# Altium integrated library NSC Audio.IntLib: 691 symbols (part 11 of 18)
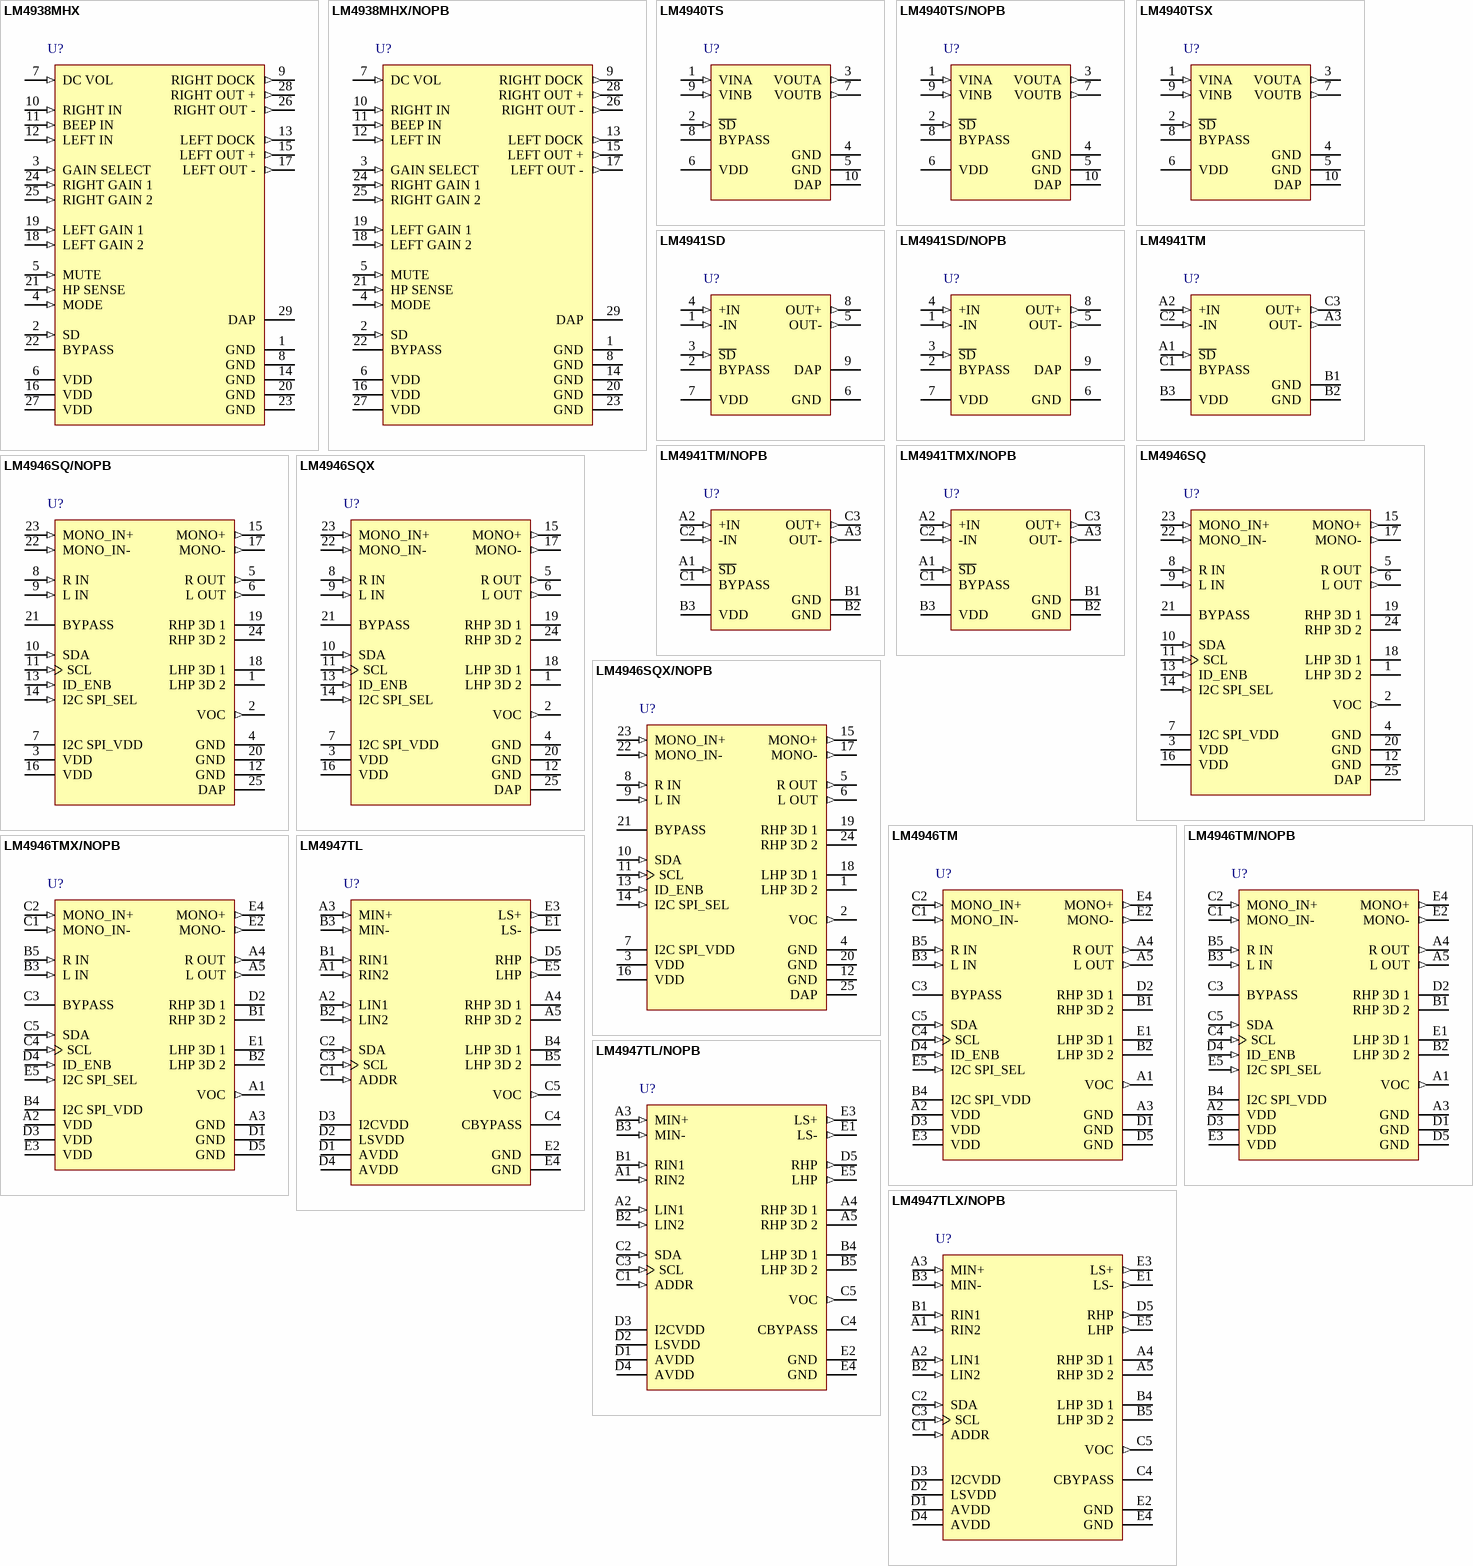
[diagram p37: symbols LM4938MHX to LM4947TLX/NOPB]

## LM4938MHX
designator U?
Stereo 2W Audio Power Amplifiers with DC Volume Control and Selectable Gain, 28-pin TSSOP-EP; PartNumber: LM4938MHX; Manufacturer: National Semiconductor; PackageTopMarking: NSUZXYTTE#*LM4938MH; PowerWise: N; CompType: Audio IC; Published: 1-Mar-2010; DatasheetVersion: Jul-2005; PackageVersion: revD, Oct-2003; PackageReference: MXA28A; Publisher: Altium Limited; PackageDescription: Molded TSSOP, Jedec, 9.7 x 4.4 x 0.9mm Body, 28 Lead, 0.65mm Pitch, Exposed Pad; RoHS: N; PinCount: 28; Code_JEDEC: MO-153-AET; ComponentLink1Description: LM4938 Datasheet; ComponentLink1URL: http://www.national.com/ds/LM/LM4938.pdf; ComponentLink2Description: LM4938 Web Page; ComponentLink2URL: http://www.national.com/pf/LM/LM4938.html; ComponentLink3Description: MXA28A Package Page; ComponentLink3URL: http://www.national.com/packaging/folders/mxa28a.html
footprint MXA28A_N (TSOP, 28-Leads, Body 9.7x4.4mm, Pitch 0.65mm, Exposed Pad, IPC Medium Density)
footprint MXA28A_L (TSOP, 28-Leads, Body 9.7x4.4mm, Pitch 0.65mm, Exposed Pad, IPC High Density)
footprint MXA28A_M (TSOP, 28-Leads, Body 9.7x4.4mm, Pitch 0.65mm, Exposed Pad, IPC Low Density)
pins: 1 GND (power), 2 SD (in), 3 GAIN SELECT (in), 4 MODE (in), 5 MUTE (in), 6 VDD (power), 7 DC VOL (in), 8 GND (power), 9 RIGHT DOCK (out), 10 RIGHT IN (in), 11 BEEP IN (in), 12 LEFT IN (in), 13 LEFT DOCK (out), 14 GND (power), 15 LEFT OUT + (out), 16 VDD (power), 17 LEFT OUT - (out), 18 LEFT GAIN 2 (in), 19 LEFT GAIN 1 (in), 20 GND (power), 21 HP SENSE (in), 22 BYPASS, 23 GND (power), 24 RIGHT GAIN 1 (in), 25 RIGHT GAIN 2 (in), 26 RIGHT OUT - (out), 27 VDD (power), 28 RIGHT OUT + (out), 29 DAP (power)

## LM4938MHX/NOPB
designator U?
Stereo 2W Audio Power Amplifiers with DC Volume Control and Selectable Gain, 28-pin TSSOP-EP, Pb-Free; PartNumber: LM4938MHX/NOPB; Manufacturer: National Semiconductor; PackageTopMarking: NSUZXYTTE#*LM4938MH; PowerWise: N; CompType: Audio IC; Published: 1-Mar-2010; DatasheetVersion: Jul-2005; PackageVersion: revD, Oct-2003; PackageReference: MXA28A; Publisher: Altium Limited; PackageDescription: Molded TSSOP, Jedec, 9.7 x 4.4 x 0.9mm Body, 28 Lead, 0.65mm Pitch, Exposed Pad; Supplier 1: Digi-Key; Supplier Part Number 1: LM4938MHX-ND; RoHS: Y; PinCount: 28; Code_JEDEC: MO-153-AET; ComponentLink1Description: LM4938 Datasheet; ComponentLink1URL: http://www.national.com/ds/LM/LM4938.pdf; ComponentLink2Description: LM4938 Web Page; ComponentLink2URL: http://www.national.com/pf/LM/LM4938.html; ComponentLink3Description: MXA28A Package Page; ComponentLink3URL: http://www.national.com/packaging/folders/mxa28a.html
footprint MXA28A_N (TSOP, 28-Leads, Body 9.7x4.4mm, Pitch 0.65mm, Exposed Pad, IPC Medium Density)
footprint MXA28A_L (TSOP, 28-Leads, Body 9.7x4.4mm, Pitch 0.65mm, Exposed Pad, IPC High Density)
footprint MXA28A_M (TSOP, 28-Leads, Body 9.7x4.4mm, Pitch 0.65mm, Exposed Pad, IPC Low Density)
pins: 1 GND (power), 2 SD (in), 3 GAIN SELECT (in), 4 MODE (in), 5 MUTE (in), 6 VDD (power), 7 DC VOL (in), 8 GND (power), 9 RIGHT DOCK (out), 10 RIGHT IN (in), 11 BEEP IN (in), 12 LEFT IN (in), 13 LEFT DOCK (out), 14 GND (power), 15 LEFT OUT + (out), 16 VDD (power), 17 LEFT OUT - (out), 18 LEFT GAIN 2 (in), 19 LEFT GAIN 1 (in), 20 GND (power), 21 HP SENSE (in), 22 BYPASS, 23 GND (power), 24 RIGHT GAIN 1 (in), 25 RIGHT GAIN 2 (in), 26 RIGHT OUT - (out), 27 VDD (power), 28 RIGHT OUT + (out), 29 DAP (power)

## LM4940TS
designator U?
6W Stereo Audio Power Amplifier, 9-pin TO-263; PartNumber: LM4940TS; Manufacturer: National Semiconductor; PackageTopMarking: NSUZXYTTE#*L4940TS; PowerWise: N; CompType: Audio IC; Published: 4-Dec-2008; DatasheetVersion: Apr-2005; PackageVersion: revB, Dec-2004; PackageReference: TS9A; Publisher: Altium Limited; PackageDescription: TO-263, Molded, 9 Lead, Surface Mount; Supplier 1: Farnell; Supplier Part Number 1: 8181209; RoHS: N; PinCount: 9; ComponentLink1Description: LM4940 Datasheet; ComponentLink1URL: http://www.national.com/ds/LM/LM4940.pdf; ComponentLink2Description: LM4940 Web Page; ComponentLink2URL: http://www.national.com/pf/LM/LM4940.html; ComponentLink3Description: TS9A Package Page; ComponentLink3URL: http://www.national.com/packaging/folders/ts9a.html
footprint TS9A_N (D2-PAK, 10-Leads, Body 8.7x10.2mm, Pitch 0.97mm, Lead Span 14.1mm, IPC Medium Density)
footprint TS9A_L (D2-PAK, 10-Leads, Body 8.7x10.2mm, Pitch 0.97mm, Lead Span 14.1mm, IPC High Density)
footprint TS9A_M (D2-PAK, 10-Leads, Body 8.7x10.2mm, Pitch 0.97mm, Lead Span 14.1mm, IPC Low Density)
pins: 1 VINA (in), 2 ~{SD} (in), 3 VOUTA (out), 4 GND (power), 5 GND (power), 6 VDD (power), 7 VOUTB (out), 8 BYPASS, 9 VINB (in), 10 DAP (power)

## LM4940TS/NOPB
designator U?
6W Stereo Audio Power Amplifier, 9-pin TO-263, Pb-Free; PartNumber: LM4940TS/NOPB; Manufacturer: National Semiconductor; PackageTopMarking: NSUZXYTTE#*L4940TS; PowerWise: N; CompType: Audio IC; Published: 1-Mar-2010; DatasheetVersion: Apr-2005; PackageVersion: revB, Dec-2004; PackageReference: TS9A; Publisher: Altium Limited; PackageDescription: TO-263, Molded, 9 Lead, Surface Mount; Supplier 1: Digi-Key; Supplier Part Number 1: LM4940TS-ND; RoHS: Y; PinCount: 9; ComponentLink1Description: LM4940 Datasheet; ComponentLink1URL: http://www.national.com/ds/LM/LM4940.pdf; ComponentLink2Description: LM4940 Web Page; ComponentLink2URL: http://www.national.com/pf/LM/LM4940.html; ComponentLink3Description: TS9A Package Page; ComponentLink3URL: http://www.national.com/packaging/folders/ts9a.html
footprint TS9A_N (D2-PAK, 10-Leads, Body 8.7x10.2mm, Pitch 0.97mm, Lead Span 14.1mm, IPC Medium Density)
footprint TS9A_L (D2-PAK, 10-Leads, Body 8.7x10.2mm, Pitch 0.97mm, Lead Span 14.1mm, IPC High Density)
footprint TS9A_M (D2-PAK, 10-Leads, Body 8.7x10.2mm, Pitch 0.97mm, Lead Span 14.1mm, IPC Low Density)
pins: 1 VINA (in), 2 ~{SD} (in), 3 VOUTA (out), 4 GND (power), 5 GND (power), 6 VDD (power), 7 VOUTB (out), 8 BYPASS, 9 VINB (in), 10 DAP (power)

## LM4940TSX
designator U?
6W Stereo Audio Power Amplifier, 9-pin TO-263; PartNumber: LM4940TSX; Manufacturer: National Semiconductor; PackageTopMarking: NSUZXYTTE#*L4940TS; PowerWise: N; CompType: Audio IC; Published: 1-Mar-2010; DatasheetVersion: Apr-2005; PackageVersion: revB, Dec-2004; PackageReference: TS9A; Publisher: Altium Limited; PackageDescription: TO-263, Molded, 9 Lead, Surface Mount; RoHS: N; PinCount: 9; ComponentLink1Description: LM4940 Datasheet; ComponentLink1URL: http://www.national.com/ds/LM/LM4940.pdf; ComponentLink2Description: LM4940 Web Page; ComponentLink2URL: http://www.national.com/pf/LM/LM4940.html; ComponentLink3Description: TS9A Package Page; ComponentLink3URL: http://www.national.com/packaging/folders/ts9a.html
footprint TS9A_N (D2-PAK, 10-Leads, Body 8.7x10.2mm, Pitch 0.97mm, Lead Span 14.1mm, IPC Medium Density)
footprint TS9A_L (D2-PAK, 10-Leads, Body 8.7x10.2mm, Pitch 0.97mm, Lead Span 14.1mm, IPC High Density)
footprint TS9A_M (D2-PAK, 10-Leads, Body 8.7x10.2mm, Pitch 0.97mm, Lead Span 14.1mm, IPC Low Density)
pins: 1 VINA (in), 2 ~{SD} (in), 3 VOUTA (out), 4 GND (power), 5 GND (power), 6 VDD (power), 7 VOUTB (out), 8 BYPASS, 9 VINB (in), 10 DAP (power)

## LM4941SD
designator U?
1.25 Watt Fully Differential Audio Power Amplifier With RF Suppression and Shutdown, 9-pin LLP; PartNumber: LM4941SD; Manufacturer: National Semiconductor; PackageTopMarking: XYTT*4941; PowerWise: N; CompType: Audio IC; Published: 4-Dec-2008; DatasheetVersion: Mar-2007; PackageVersion: revA, Jan-2004; PackageReference: SDA08C; Publisher: Altium Limited; PackageDescription: LLP, Plastic, Dual, 2.5 x 3.0 x 0.8mm Body, 8 Lead, 0.5mm Pitch, No Pullback; Supplier 1: Farnell; Supplier Part Number 1: 1320976; RoHS: Y; PinCount: 8; ComponentLink1Description: LM4941 Datasheet; ComponentLink1URL: http://www.national.com/ds/LM/LM4941.pdf; ComponentLink2Description: LM4941 Web Page; ComponentLink2URL: http://www.national.com/pf/LM/LM4941.html; ComponentLink3Description: SDA08C Package Page; ComponentLink3URL: http://www.national.com/packaging/folders/sda08c.html
footprint SDA08C (SON, 8-Leads, Body 2.5x3mm, Pitch 0.5mm, NSC Recommended)
pins: 1 -IN (in), 2 BYPASS, 3 ~{SD} (in), 4 +IN (in), 5 OUT- (out), 6 GND (power), 7 VDD (power), 8 OUT+ (out), 9 DAP (power)

## LM4941SD/NOPB
designator U?
1.25 Watt Fully Differential Audio Power Amplifier With RF Suppression and Shutdown, 8-pin LLP, Pb-Free; PartNumber: LM4941SD/NOPB; Manufacturer: National Semiconductor; PackageTopMarking: XYTT*4941; PowerWise: N; CompType: Audio IC; Published: 1-Mar-2010; DatasheetVersion: Mar-2007; PackageVersion: revA, Jan-2004; PackageReference: SDA08C; Publisher: Altium Limited; PackageDescription: LLP, Plastic, Dual, 2.5 x 3.0 x 0.8mm Body, 8 Lead, 0.5mm Pitch, No Pullback; Supplier 1: Digi-Key; Supplier Part Number 1: LM4941SDTR-ND; Supplier 2: Digi-Key; Supplier Part Number 2: LM4941SDCT-ND; Supplier 3: Digi-Key; Supplier Part Number 3: LM4941SDDKR-ND; RoHS: Y; PinCount: 8; ComponentLink1Description: LM4941 Datasheet; ComponentLink1URL: http://www.national.com/ds/LM/LM4941.pdf; ComponentLink2Description: LM4941 Web Page; ComponentLink2URL: http://www.national.com/pf/LM/LM4941.html; ComponentLink3Description: SDA08C Package Page; ComponentLink3URL: http://www.national.com/packaging/folders/sda08c.html
footprint SDA08C (SON, 8-Leads, Body 2.5x3mm, Pitch 0.5mm, NSC Recommended)
pins: 1 -IN (in), 2 BYPASS, 3 ~{SD} (in), 4 +IN (in), 5 OUT- (out), 6 GND (power), 7 VDD (power), 8 OUT+ (out), 9 DAP (power)

## LM4941TM
designator U?
1.25 Watt Fully Differential Audio Power Amplifier With RF Suppression and Shutdown, 9-pin Micro SMD; PartNumber: LM4941TM; Manufacturer: National Semiconductor; PackageTopMarking: XVG*I H6; PowerWise: Y; CompType: Audio IC; Published: 4-Dec-2008; DatasheetVersion: Mar-2007; PackageVersion: revA, May-2005; PackageReference: TMD09AAA; Publisher: Altium Limited; PackageDescription: Thin Micro SMD, 9 Bump, 0.4mm Pitch; Supplier 1: Farnell; Supplier Part Number 1: 1286920; RoHS: Y; PinCount: 9; ComponentLink1Description: LM4941 Datasheet; ComponentLink1URL: http://www.national.com/ds/LM/LM4941.pdf; ComponentLink2Description: LM4941 Web Page; ComponentLink2URL: http://www.national.com/pf/LM/LM4941.html; ComponentLink3Description: TMD09AAA Package Page; ComponentLink3URL: http://www.national.com/packaging/folders/tmd09aaa.html
footprint TMD09AAA (Micro SMD, 9-Leads, Body 1.22x1.22mm, Pitch 0.4mm, NSC Recommended)
pins: A1 ~{SD} (in), A2 +IN (in), A3 OUT- (out), B1 GND (power), B2 GND (power), B3 VDD (power), C1 BYPASS, C2 -IN (in), C3 OUT+ (out)

## LM4941TM/NOPB
designator U?
1.25 Watt Fully Differential Audio Power Amplifier With RF Suppression and Shutdown, 9-pin Micro SMD, Pb-Free; PartNumber: LM4941TM/NOPB; Manufacturer: National Semiconductor; PackageTopMarking: XVG*I H6; PowerWise: Y; CompType: Audio IC; Published: 1-Mar-2010; DatasheetVersion: Mar-2007; PackageVersion: revA, May-2005; PackageReference: TMD09AAA; Publisher: Altium Limited; PackageDescription: Thin Micro SMD, 9 Bump, 0.4mm Pitch; Supplier 1: Digi-Key; Supplier Part Number 1: LM4941TMTR-ND; Supplier 2: Digi-Key; Supplier Part Number 2: LM4941TMCT-ND; Supplier 3: Digi-Key; Supplier Part Number 3: LM4941TMDKR-ND; RoHS: Y; PinCount: 9; ComponentLink1Description: LM4941 Datasheet; ComponentLink1URL: http://www.national.com/ds/LM/LM4941.pdf; ComponentLink2Description: LM4941 Web Page; ComponentLink2URL: http://www.national.com/pf/LM/LM4941.html; ComponentLink3Description: TMD09AAA Package Page; ComponentLink3URL: http://www.national.com/packaging/folders/tmd09aaa.html
footprint TMD09AAA (Micro SMD, 9-Leads, Body 1.22x1.22mm, Pitch 0.4mm, NSC Recommended)
pins: A1 ~{SD} (in), A2 +IN (in), A3 OUT- (out), B1 GND (power), B2 GND (power), B3 VDD (power), C1 BYPASS, C2 -IN (in), C3 OUT+ (out)

## LM4941TMX/NOPB
designator U?
1.25 Watt Fully Differential Audio Power Amplifier With RF Suppression and Shutdown, 9-pin Micro SMD, Pb-Free; PartNumber: LM4941TMX/NOPB; Manufacturer: National Semiconductor; PackageTopMarking: XVG*I H6; PowerWise: Y; CompType: Audio IC; Published: 1-Mar-2010; DatasheetVersion: Mar-2007; PackageVersion: revA, May-2005; PackageReference: TMD09AAA; Publisher: Altium Limited; PackageDescription: Thin Micro SMD, 9 Bump, 0.4mm Pitch; Supplier 1: Digi-Key; Supplier Part Number 1: LM4941TMX-ND; RoHS: Y; PinCount: 9; ComponentLink1Description: LM4941 Datasheet; ComponentLink1URL: http://www.national.com/ds/LM/LM4941.pdf; ComponentLink2Description: LM4941 Web Page; ComponentLink2URL: http://www.national.com/pf/LM/LM4941.html; ComponentLink3Description: TMD09AAA Package Page; ComponentLink3URL: http://www.national.com/packaging/folders/tmd09aaa.html
footprint TMD09AAA (Micro SMD, 9-Leads, Body 1.22x1.22mm, Pitch 0.4mm, NSC Recommended)
pins: A1 ~{SD} (in), A2 +IN (in), A3 OUT- (out), B1 GND (power), B2 GND (power), B3 VDD (power), C1 BYPASS, C2 -IN (in), C3 OUT+ (out)

## LM4946SQ
designator U?
Output Capacitor-Less Audio Subsystem with Programmable National 3D, 25-pin LLP; PartNumber: LM4946SQ; Manufacturer: National Semiconductor; PackageTopMarking: NS*UZXYTT*L4946SQ; PowerWise: N; CompType: Audio IC; Published: 4-Dec-2008; DatasheetVersion: Aug-2007; PackageVersion: revB, Aug-2003; PackageReference: SQA24A; Publisher: Altium Limited; PackageDescription: LLP, Plastic, Quad, 4 x 4 x 0.8mm Body, 24 Lead, 0.5mm Pitch, No Pullback; RoHS: N; PinCount: 24; Code_JEDEC: MO-220-WGGD-6; ComponentLink1Description: LM4946 Datasheet; ComponentLink1URL: http://www.national.com/ds/LM/LM4946.pdf; ComponentLink2Description: LM4946 Web Page; ComponentLink2URL: http://www.national.com/pf/LM/LM4946.html; ComponentLink3Description: SQA24A Package Page; ComponentLink3URL: http://www.national.com/packaging/folders/sqa24a.html
footprint SQA24A (QFN, 24-Leads, Body 4x4mm, Pitch 0.5mm, NSC Recommended)
pins: 1 LHP 3D 2, 2 VOC (out), 3 VDD (power), 4 GND (power), 5 R OUT (out), 6 L OUT (out), 7 I2C SPI_VDD (power), 8 R IN (in), 9 L IN (in), 10 SDA (in), 11 SCL (in), 12 GND (power), 13 ID_ENB (in), 14 I2C SPI_SEL (in), 15 MONO+ (out), 16 VDD (power), 17 MONO- (out), 18 LHP 3D 1, 19 RHP 3D 1, 20 GND (power), 21 BYPASS, 22 MONO_IN- (in), 23 MONO_IN+ (in), 24 RHP 3D 2, 25 DAP (power)

## LM4946SQ/NOPB
designator U?
Output Capacitor-Less Audio Subsystem with Programmable National 3D, 24-pin LLP, Pb-Free; PartNumber: LM4946SQ/NOPB; Manufacturer: National Semiconductor; PackageTopMarking: NS*UZXYTT*L4946SQ; PowerWise: N; CompType: Audio IC; Published: 1-Mar-2010; DatasheetVersion: Aug-2007; PackageVersion: revB, Aug-2003; PackageReference: SQA24A; Publisher: Altium Limited; PackageDescription: LLP, Plastic, Quad, 4 x 4 x 0.8mm Body, 24 Lead, 0.5mm Pitch, No Pullback; Supplier 1: Digi-Key; Supplier Part Number 1: LM4946SQTR-ND; Supplier 2: Digi-Key; Supplier Part Number 2: LM4946SQCT-ND; Supplier 3: Digi-Key; Supplier Part Number 3: LM4946SQDKR-ND; RoHS: Y; PinCount: 24; Code_JEDEC: MO-220-WGGD-6; ComponentLink1Description: LM4946 Datasheet; ComponentLink1URL: http://www.national.com/ds/LM/LM4946.pdf; ComponentLink2Description: LM4946 Web Page; ComponentLink2URL: http://www.national.com/pf/LM/LM4946.html; ComponentLink3Description: SQA24A Package Page; ComponentLink3URL: http://www.national.com/packaging/folders/sqa24a.html
footprint SQA24A (QFN, 24-Leads, Body 4x4mm, Pitch 0.5mm, NSC Recommended)
pins: 1 LHP 3D 2, 2 VOC (out), 3 VDD (power), 4 GND (power), 5 R OUT (out), 6 L OUT (out), 7 I2C SPI_VDD (power), 8 R IN (in), 9 L IN (in), 10 SDA (in), 11 SCL (in), 12 GND (power), 13 ID_ENB (in), 14 I2C SPI_SEL (in), 15 MONO+ (out), 16 VDD (power), 17 MONO- (out), 18 LHP 3D 1, 19 RHP 3D 1, 20 GND (power), 21 BYPASS, 22 MONO_IN- (in), 23 MONO_IN+ (in), 24 RHP 3D 2, 25 DAP (power)

## LM4946SQX
designator U?
Output Capacitor-Less Audio Subsystem with Programmable National 3D, 24-pin LLP; PartNumber: LM4946SQX; Manufacturer: National Semiconductor; PackageTopMarking: NS*UZXYTT*L4946SQ; PowerWise: N; CompType: Audio IC; Published: 1-Mar-2010; DatasheetVersion: Aug-2007; PackageVersion: revB, Aug-2003; PackageReference: SQA24A; Publisher: Altium Limited; PackageDescription: LLP, Plastic, Quad, 4 x 4 x 0.8mm Body, 24 Lead, 0.5mm Pitch, No Pullback; RoHS: N; PinCount: 24; Code_JEDEC: MO-220-WGGD-6; ComponentLink1Description: LM4946 Datasheet; ComponentLink1URL: http://www.national.com/ds/LM/LM4946.pdf; ComponentLink2Description: LM4946 Web Page; ComponentLink2URL: http://www.national.com/pf/LM/LM4946.html; ComponentLink3Description: SQA24A Package Page; ComponentLink3URL: http://www.national.com/packaging/folders/sqa24a.html
footprint SQA24A (QFN, 24-Leads, Body 4x4mm, Pitch 0.5mm, NSC Recommended)
pins: 1 LHP 3D 2, 2 VOC (out), 3 VDD (power), 4 GND (power), 5 R OUT (out), 6 L OUT (out), 7 I2C SPI_VDD (power), 8 R IN (in), 9 L IN (in), 10 SDA (in), 11 SCL (in), 12 GND (power), 13 ID_ENB (in), 14 I2C SPI_SEL (in), 15 MONO+ (out), 16 VDD (power), 17 MONO- (out), 18 LHP 3D 1, 19 RHP 3D 1, 20 GND (power), 21 BYPASS, 22 MONO_IN- (in), 23 MONO_IN+ (in), 24 RHP 3D 2, 25 DAP (power)

## LM4946SQX/NOPB
designator U?
Output Capacitor-Less Audio Subsystem with Programmable National 3D, 24-pin LLP, Pb-Free; PartNumber: LM4946SQX/NOPB; Manufacturer: National Semiconductor; PackageTopMarking: NS*UZXYTT*L4946SQ; PowerWise: N; CompType: Audio IC; Published: 1-Mar-2010; DatasheetVersion: Aug-2007; PackageVersion: revB, Aug-2003; PackageReference: SQA24A; Publisher: Altium Limited; PackageDescription: LLP, Plastic, Quad, 4 x 4 x 0.8mm Body, 24 Lead, 0.5mm Pitch, No Pullback; Supplier 1: Digi-Key; Supplier Part Number 1: LM4946SQX-ND; RoHS: Y; PinCount: 24; Code_JEDEC: MO-220-WGGD-6; ComponentLink1Description: LM4946 Datasheet; ComponentLink1URL: http://www.national.com/ds/LM/LM4946.pdf; ComponentLink2Description: LM4946 Web Page; ComponentLink2URL: http://www.national.com/pf/LM/LM4946.html; ComponentLink3Description: SQA24A Package Page; ComponentLink3URL: http://www.national.com/packaging/folders/sqa24a.html
footprint SQA24A (QFN, 24-Leads, Body 4x4mm, Pitch 0.5mm, NSC Recommended)
pins: 1 LHP 3D 2, 2 VOC (out), 3 VDD (power), 4 GND (power), 5 R OUT (out), 6 L OUT (out), 7 I2C SPI_VDD (power), 8 R IN (in), 9 L IN (in), 10 SDA (in), 11 SCL (in), 12 GND (power), 13 ID_ENB (in), 14 I2C SPI_SEL (in), 15 MONO+ (out), 16 VDD (power), 17 MONO- (out), 18 LHP 3D 1, 19 RHP 3D 1, 20 GND (power), 21 BYPASS, 22 MONO_IN- (in), 23 MONO_IN+ (in), 24 RHP 3D 2, 25 DAP (power)

## LM4946TM
designator U?
Output Capacitor-Less Audio Subsystem with Programmable National 3D, 25-pin Micro SMD; PartNumber: LM4946TM; Manufacturer: National Semiconductor; PackageTopMarking: XYTT*I GI9; PowerWise: N; CompType: Audio IC; Published: 4-Dec-2008; DatasheetVersion: Aug-2007; PackageVersion: revC, 2007; PackageReference: TMD25ABA; Publisher: Altium Limited; PackageDescription: Thin Micro SMD, 25 Bump, 0.4mm Pitch; RoHS: Y; PinCount: 25; ComponentLink1Description: LM4946 Datasheet; ComponentLink1URL: http://www.national.com/ds/LM/LM4946.pdf; ComponentLink2Description: LM4946 Web Page; ComponentLink2URL: http://www.national.com/pf/LM/LM4946.html
footprint TMD25ABA (Micro SMD, 25-Leads, Body 2.05x2.02mm, Pitch 0.4mm, NSC Recommended)
pins: A1 VOC (out), A2 VDD (power), A3 GND (power), A4 R OUT (out), A5 L OUT (out), B1 RHP 3D 2, B2 LHP 3D 2, B3 L IN (in), B4 I2C SPI_VDD (power), B5 R IN (in), C1 MONO_IN- (in), C2 MONO_IN+ (in), C3 BYPASS, C4 SCL (in), C5 SDA (in), D1 GND (power), D2 RHP 3D 1, D3 VDD (power), D4 ID_ENB (in), D5 GND (power), E1 LHP 3D 1, E2 MONO- (out), E3 VDD (power), E4 MONO+ (out), E5 I2C SPI_SEL (in)

## LM4946TM/NOPB
designator U?
Output Capacitor-Less Audio Subsystem with Programmable National 3D, 25-pin Micro SMD, Pb-Free; PartNumber: LM4946TM/NOPB; Manufacturer: National Semiconductor; PackageTopMarking: XYTT*I GI9; PowerWise: N; CompType: Audio IC; Published: 1-Mar-2010; DatasheetVersion: Aug-2007; PackageVersion: revC, 2007; PackageReference: TMD25ABA; Publisher: Altium Limited; PackageDescription: Thin Micro SMD, 25 Bump, 0.4mm Pitch; Supplier 1: Digi-Key; Supplier Part Number 1: LM4946TMTR-ND; Supplier 2: Digi-Key; Supplier Part Number 2: LM4946TMCT-ND; Supplier 3: Digi-Key; Supplier Part Number 3: LM4946TMDKR-ND; RoHS: Y; PinCount: 25; ComponentLink1Description: LM4946 Datasheet; ComponentLink1URL: http://www.national.com/ds/LM/LM4946.pdf; ComponentLink2Description: LM4946 Web Page; ComponentLink2URL: http://www.national.com/pf/LM/LM4946.html; ComponentLink3Description: TMD25ABA Package Page; ComponentLink3URL: http://www.national.com/packaging/folders/tmd25aba.html
footprint TMD25ABA (Micro SMD, 25-Leads, Body 2.05x2.02mm, Pitch 0.4mm, NSC Recommended)
pins: A1 VOC (out), A2 VDD (power), A3 GND (power), A4 R OUT (out), A5 L OUT (out), B1 RHP 3D 2, B2 LHP 3D 2, B3 L IN (in), B4 I2C SPI_VDD (power), B5 R IN (in), C1 MONO_IN- (in), C2 MONO_IN+ (in), C3 BYPASS, C4 SCL (in), C5 SDA (in), D1 GND (power), D2 RHP 3D 1, D3 VDD (power), D4 ID_ENB (in), D5 GND (power), E1 LHP 3D 1, E2 MONO- (out), E3 VDD (power), E4 MONO+ (out), E5 I2C SPI_SEL (in)

## LM4946TMX/NOPB
designator U?
Output Capacitor-Less Audio Subsystem with Programmable National 3D, 25-pin Micro SMD, Pb-Free; PartNumber: LM4946TMX/NOPB; Manufacturer: National Semiconductor; PackageTopMarking: XYTT*I GI9; PowerWise: N; CompType: Audio IC; Published: 1-Mar-2010; DatasheetVersion: Aug-2007; PackageVersion: revC, 2007; PackageReference: TMD25ABA; Publisher: Altium Limited; PackageDescription: Thin Micro SMD, 25 Bump, 0.4mm Pitch; Supplier 1: Digi-Key; Supplier Part Number 1: LM4946TMX-ND; RoHS: Y; PinCount: 25; ComponentLink1Description: LM4946 Datasheet; ComponentLink1URL: http://www.national.com/ds/LM/LM4946.pdf; ComponentLink2Description: LM4946 Web Page; ComponentLink2URL: http://www.national.com/pf/LM/LM4946.html; ComponentLink3Description: TMD25ABA Package Page; ComponentLink3URL: http://www.national.com/packaging/folders/tmd25aba.html
footprint TMD25ABA (Micro SMD, 25-Leads, Body 2.05x2.02mm, Pitch 0.4mm, NSC Recommended)
pins: A1 VOC (out), A2 VDD (power), A3 GND (power), A4 R OUT (out), A5 L OUT (out), B1 RHP 3D 2, B2 LHP 3D 2, B3 L IN (in), B4 I2C SPI_VDD (power), B5 R IN (in), C1 MONO_IN- (in), C2 MONO_IN+ (in), C3 BYPASS, C4 SCL (in), C5 SDA (in), D1 GND (power), D2 RHP 3D 1, D3 VDD (power), D4 ID_ENB (in), D5 GND (power), E1 LHP 3D 1, E2 MONO- (out), E3 VDD (power), E4 MONO+ (out), E5 I2C SPI_SEL (in)

## LM4947TL
designator U?
Mono Class D and Stereo Audio Sub-System with OCL Headphone Amplifier and National 3D, 25-pin Micro SMD; PartNumber: LM4947TL; Manufacturer: National Semiconductor; PackageTopMarking: XYTT*I GH1; PowerWise: N; CompType: Audio IC; Published: 4-Dec-2008; DatasheetVersion: Nov-2007; PackageVersion: revD, Dec-2003; PackageReference: TLA25BBA; Publisher: Altium Limited; PackageDescription: Thin Micro SMD, 25 Bump (Large), 0.5mm Pitch; Supplier 1: Farnell; Supplier Part Number 1: 1286921; RoHS: Y; PinCount: 25; Code_JEDEC: MO-211-DH; ComponentLink1Description: LM4947 Datasheet; ComponentLink1URL: http://www.national.com/ds/LM/LM4947.pdf; ComponentLink2Description: LM4947 Web Page; ComponentLink2URL: http://www.national.com/pf/LM/LM4947.html; ComponentLink3Description: TLA25BBA Package Page; ComponentLink3URL: http://www.national.com/packaging/folders/tla25bba.html
footprint TLA25BBA (Micro SMD, 25-Leads, Body 2.52x2.52mm, Pitch 0.5mm, NSC Recommended)
pins: A1 RIN2 (in), A2 LIN1 (in), A3 MIN+ (in), A4 RHP 3D 1, A5 RHP 3D 2, B1 RIN1 (in), B2 LIN2 (in), B3 MIN- (in), B4 LHP 3D 1, B5 LHP 3D 2, C1 ADDR (in), C2 SDA (in), C3 SCL (in), C4 CBYPASS, C5 VOC (out), D1 AVDD (power), D2 LSVDD (power), D3 I2CVDD (power), D4 AVDD (power), D5 RHP (out), E1 LS- (out), E2 GND (power), E3 LS+ (out), E4 GND (power), E5 LHP (out)

## LM4947TL/NOPB
designator U?
Mono Class D and Stereo Audio Sub-System with OCL Headphone Amplifier and National 3D, 25-pin Micro SMD, Pb-Free; PartNumber: LM4947TL/NOPB; Manufacturer: National Semiconductor; PackageTopMarking: XYTT*I GH1; PowerWise: N; CompType: Audio IC; Published: 1-Mar-2010; DatasheetVersion: Nov-2007; PackageVersion: revD, Dec-2003; PackageReference: TLA25BBA; Publisher: Altium Limited; PackageDescription: Thin Micro SMD, 25 Bump (Large), 0.5mm Pitch; Supplier 1: Digi-Key; Supplier Part Number 1: LM4947TLTR-ND; Supplier 2: Digi-Key; Supplier Part Number 2: LM4947TLCT-ND; Supplier 3: Digi-Key; Supplier Part Number 3: LM4947TLDKR-ND; RoHS: Y; PinCount: 25; Code_JEDEC: MO-211-DH; ComponentLink1Description: LM4947 Datasheet; ComponentLink1URL: http://www.national.com/ds/LM/LM4947.pdf; ComponentLink2Description: LM4947 Web Page; ComponentLink2URL: http://www.national.com/pf/LM/LM4947.html; ComponentLink3Description: TLA25BBA Package Page; ComponentLink3URL: http://www.national.com/packaging/folders/tla25bba.html
footprint TLA25BBA (Micro SMD, 25-Leads, Body 2.52x2.52mm, Pitch 0.5mm, NSC Recommended)
pins: A1 RIN2 (in), A2 LIN1 (in), A3 MIN+ (in), A4 RHP 3D 1, A5 RHP 3D 2, B1 RIN1 (in), B2 LIN2 (in), B3 MIN- (in), B4 LHP 3D 1, B5 LHP 3D 2, C1 ADDR (in), C2 SDA (in), C3 SCL (in), C4 CBYPASS, C5 VOC (out), D1 AVDD (power), D2 LSVDD (power), D3 I2CVDD (power), D4 AVDD (power), D5 RHP (out), E1 LS- (out), E2 GND (power), E3 LS+ (out), E4 GND (power), E5 LHP (out)

## LM4947TLX/NOPB
designator U?
Mono Class D and Stereo Audio Sub-System with OCL Headphone Amplifier and National 3D, 25-pin Micro SMD, Pb-Free; PartNumber: LM4947TLX/NOPB; Manufacturer: National Semiconductor; PackageTopMarking: XYTT*I GH1; PowerWise: N; CompType: Audio IC; Published: 1-Mar-2010; DatasheetVersion: Nov-2007; PackageVersion: revD, Dec-2003; PackageReference: TLA25BBA; Publisher: Altium Limited; PackageDescription: Thin Micro SMD, 25 Bump (Large), 0.5mm Pitch; Supplier 1: Digi-Key; Supplier Part Number 1: LM4947TLX-ND; RoHS: Y; PinCount: 25; Code_JEDEC: MO-211-DH; ComponentLink1Description: LM4947 Datasheet; ComponentLink1URL: http://www.national.com/ds/LM/LM4947.pdf; ComponentLink2Description: LM4947 Web Page; ComponentLink2URL: http://www.national.com/pf/LM/LM4947.html; ComponentLink3Description: TLA25BBA Package Page; ComponentLink3URL: http://www.national.com/packaging/folders/tla25bba.html
footprint TLA25BBA (Micro SMD, 25-Leads, Body 2.52x2.52mm, Pitch 0.5mm, NSC Recommended)
pins: A1 RIN2 (in), A2 LIN1 (in), A3 MIN+ (in), A4 RHP 3D 1, A5 RHP 3D 2, B1 RIN1 (in), B2 LIN2 (in), B3 MIN- (in), B4 LHP 3D 1, B5 LHP 3D 2, C1 ADDR (in), C2 SDA (in), C3 SCL (in), C4 CBYPASS, C5 VOC (out), D1 AVDD (power), D2 LSVDD (power), D3 I2CVDD (power), D4 AVDD (power), D5 RHP (out), E1 LS- (out), E2 GND (power), E3 LS+ (out), E4 GND (power), E5 LHP (out)

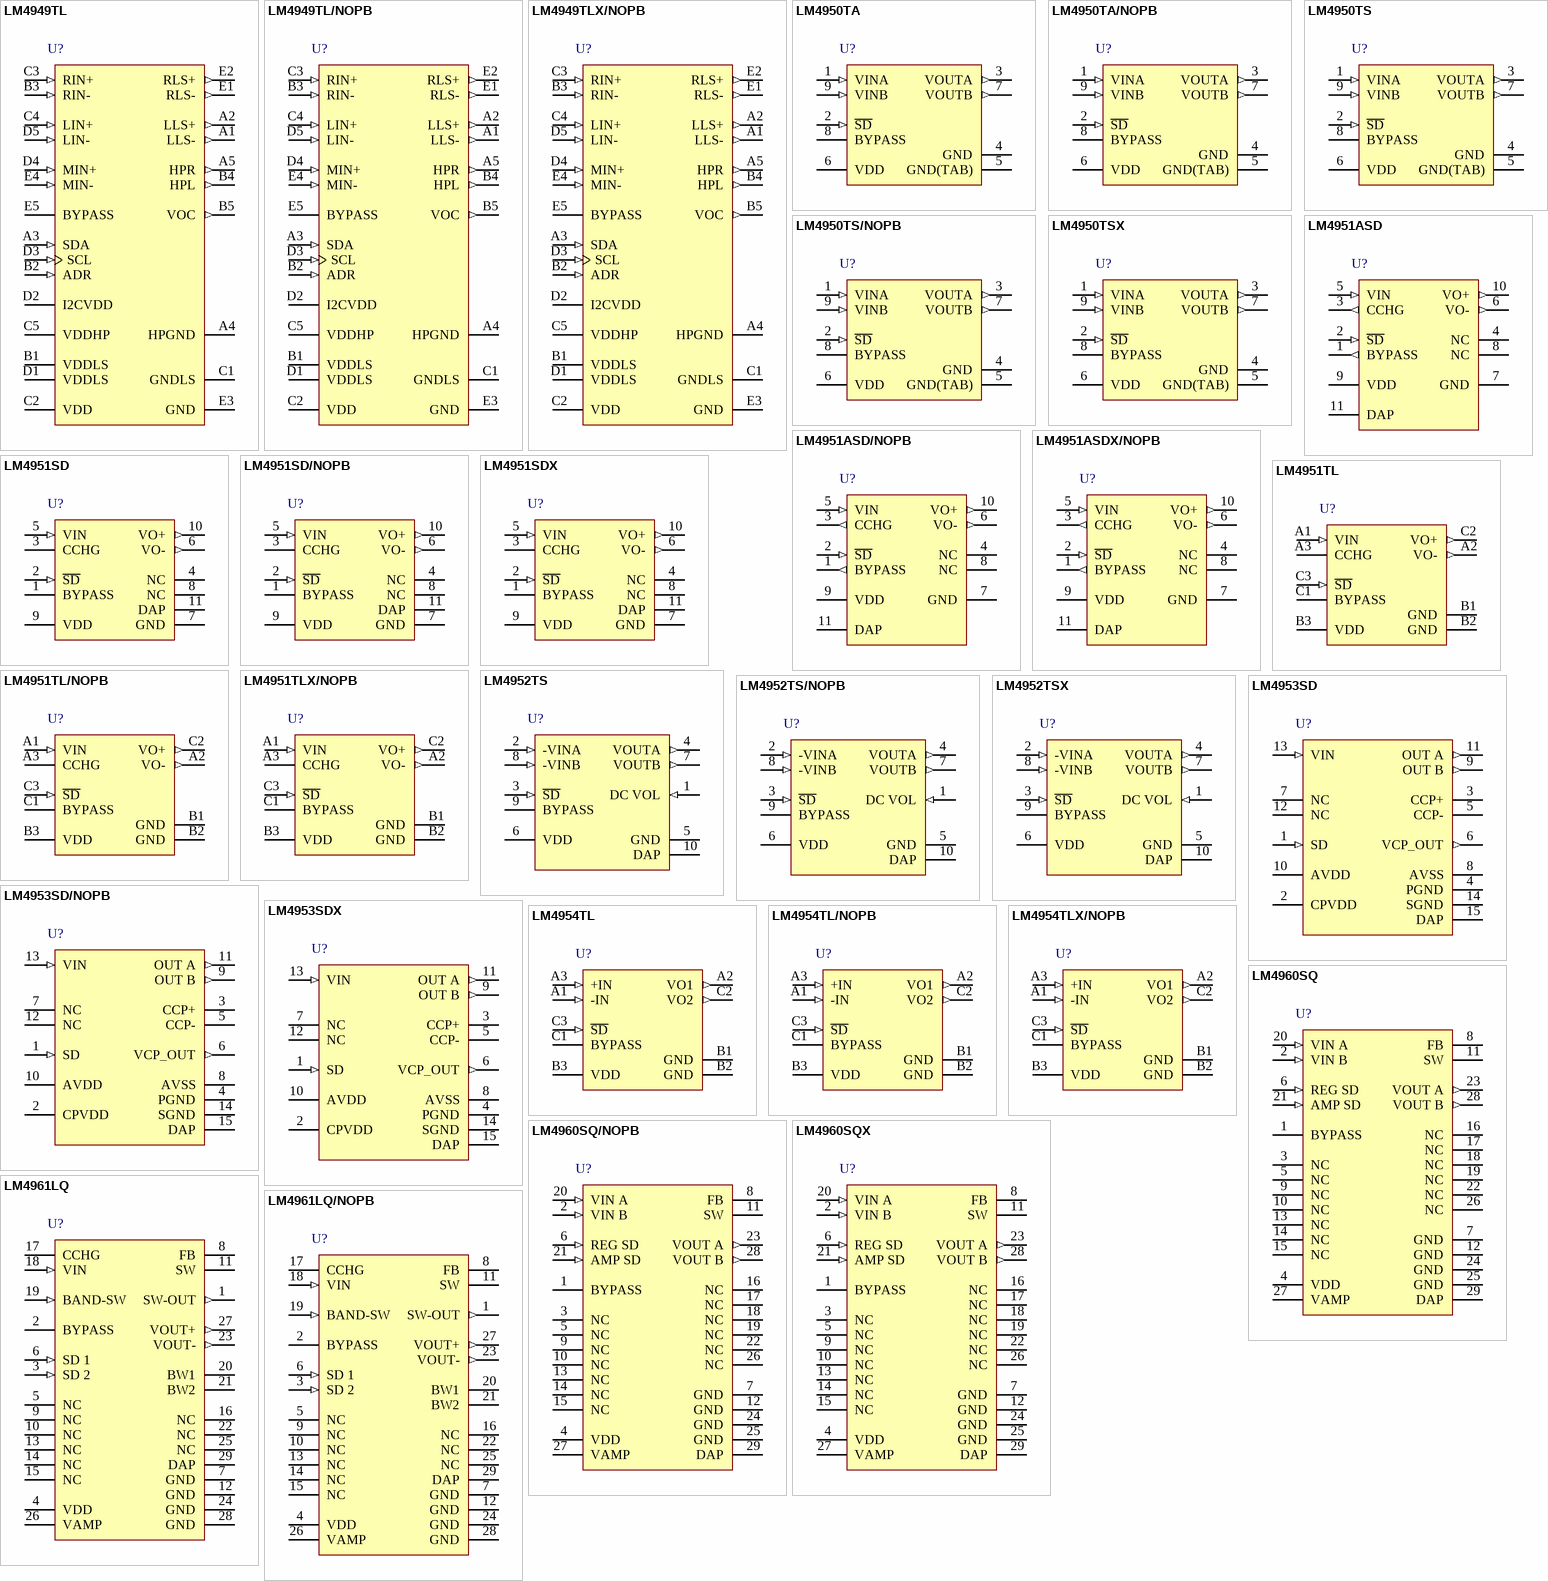
[diagram p16: symbols LM4949TL to LM4961LQ/NOPB]

## LM4949TL
designator U?
Stereo Class D Audio Subsystem with OCL Headphone Amplifier, 25-pin Micro SMD; PartNumber: LM4949TL; Manufacturer: National Semiconductor; PackageTopMarking: XYTT*I GH3; PowerWise: N; CompType: Audio IC; Published: 4-Dec-2008; DatasheetVersion: Jan-2007; PackageVersion: revD, Oct-2003; PackageReference: TLA25JJA; Publisher: Altium Limited; PackageDescription: 25-Ball Thin Micro SMD, 2.69 x 2.69 x 0.6mm Body, 0.5 mm Pitch; RoHS: Y; PinCount: 25; Code_JEDEC: MO-211-DH; ComponentLink1Description: LM4949 Datasheet; ComponentLink1URL: http://www.national.com/ds/LM/LM4949.pdf; ComponentLink2Description: LM4949 Web Page; ComponentLink2URL: http://www.national.com/pf/LM/LM4949.html; ComponentLink3Description: TLA25JJA Package Page; ComponentLink3URL: http://www.national.com/packaging/folders/tla25jja.html
footprint TLA25JJA (BGA, 25-Leads, Body 2.69x2.69mm, Pitch 0.5mm)
pins: A1 LLS- (out), A2 LLS+ (out), A3 SDA (in), A4 HPGND (power), A5 HPR (out), B1 VDDLS (power), B2 ADR (in), B3 RIN- (in), B4 HPL (out), B5 VOC (out), C1 GNDLS (power), C2 VDD (power), C3 RIN+ (in), C4 LIN+ (in), C5 VDDHP (power), D1 VDDLS (power), D2 I2CVDD (power), D3 SCL (in), D4 MIN+ (in), D5 LIN- (in), E1 RLS- (out), E2 RLS+ (out), E3 GND (power), E4 MIN- (in), E5 BYPASS

## LM4949TL/NOPB
designator U?
Stereo Class D Audio Subsystem with OCL Headphone Amplifier, 25-pin Micro SMD, Pb-Free; PartNumber: LM4949TL/NOPB; Manufacturer: National Semiconductor; PackageTopMarking: XYTT*I GH3; PowerWise: N; CompType: Audio IC; Published: 1-Mar-2010; DatasheetVersion: Jan-2007; PackageVersion: revD, Oct-2003; PackageReference: TLA25JJA; Publisher: Altium Limited; PackageDescription: 25-Ball Thin Micro SMD, 2.69 x 2.69 x 0.6mm Body, 0.5 mm Pitch; Supplier 1: Digi-Key; Supplier Part Number 1: LM4949TLTR-ND; Supplier 2: Digi-Key; Supplier Part Number 2: LM4949TLCT-ND; Supplier 3: Digi-Key; Supplier Part Number 3: LM4949TLDKR-ND; RoHS: Y; PinCount: 25; Code_JEDEC: MO-211-DH; ComponentLink1Description: LM4949 Datasheet; ComponentLink1URL: http://www.national.com/ds/LM/LM4949.pdf; ComponentLink2Description: LM4949 Web Page; ComponentLink2URL: http://www.national.com/pf/LM/LM4949.html; ComponentLink3Description: TLA25JJA Package Page; ComponentLink3URL: http://www.national.com/packaging/folders/tla25jja.html
footprint TLA25JJA (BGA, 25-Leads, Body 2.69x2.69mm, Pitch 0.5mm)
pins: A1 LLS- (out), A2 LLS+ (out), A3 SDA (in), A4 HPGND (power), A5 HPR (out), B1 VDDLS (power), B2 ADR (in), B3 RIN- (in), B4 HPL (out), B5 VOC (out), C1 GNDLS (power), C2 VDD (power), C3 RIN+ (in), C4 LIN+ (in), C5 VDDHP (power), D1 VDDLS (power), D2 I2CVDD (power), D3 SCL (in), D4 MIN+ (in), D5 LIN- (in), E1 RLS- (out), E2 RLS+ (out), E3 GND (power), E4 MIN- (in), E5 BYPASS

## LM4949TLX/NOPB
designator U?
Stereo Class D Audio Subsystem with OCL Headphone Amplifier, 25-pin Micro SMD, Pb-Free; PartNumber: LM4949TLX/NOPB; Manufacturer: National Semiconductor; PackageTopMarking: XYTT*I GH3; PowerWise: N; CompType: Audio IC; Published: 1-Mar-2010; DatasheetVersion: Jan-2007; PackageVersion: revD, Oct-2003; PackageReference: TLA25JJA; Publisher: Altium Limited; PackageDescription: 25-Ball Thin Micro SMD, 2.69 x 2.69 x 0.6mm Body, 0.5 mm Pitch; Supplier 1: Digi-Key; Supplier Part Number 1: LM4949TLX-ND; RoHS: Y; PinCount: 25; Code_JEDEC: MO-211-DH; ComponentLink1Description: LM4949 Datasheet; ComponentLink1URL: http://www.national.com/ds/LM/LM4949.pdf; ComponentLink2Description: LM4949 Web Page; ComponentLink2URL: http://www.national.com/pf/LM/LM4949.html; ComponentLink3Description: TLA25JJA Package Page; ComponentLink3URL: http://www.national.com/packaging/folders/tla25jja.html
footprint TLA25JJA (BGA, 25-Leads, Body 2.69x2.69mm, Pitch 0.5mm)
pins: A1 LLS- (out), A2 LLS+ (out), A3 SDA (in), A4 HPGND (power), A5 HPR (out), B1 VDDLS (power), B2 ADR (in), B3 RIN- (in), B4 HPL (out), B5 VOC (out), C1 GNDLS (power), C2 VDD (power), C3 RIN+ (in), C4 LIN+ (in), C5 VDDHP (power), D1 VDDLS (power), D2 I2CVDD (power), D3 SCL (in), D4 MIN+ (in), D5 LIN- (in), E1 RLS- (out), E2 RLS+ (out), E3 GND (power), E4 MIN- (in), E5 BYPASS

## LM4950TA
designator U?
7.5W Mono-BTL or 3.1W Stereo Audio Power Amplifier, 9-pin TO-220; PartNumber: LM4950TA; Manufacturer: National Semiconductor; PackageTopMarking: NSUZXYTTE#*L4950TA; PowerWise: N; CompType: Audio IC; Published: 4-Dec-2008; DatasheetVersion: Aug-2004; PackageVersion: revC, Jul-1999; PackageReference: TA09A; Publisher: Altium Limited; PackageDescription: TO-220, Molded, 9 Lead, Staggered; Supplier 1: Farnell; Supplier Part Number 1: 8181217; RoHS: N; PinCount: 9; ComponentLink1Description: LM4950 Datasheet; ComponentLink1URL: http://www.national.com/ds/LM/LM4950.pdf; ComponentLink2Description: LM4950 Web Page; ComponentLink2URL: http://www.national.com/pf/LM/LM4950.html; ComponentLink3Description: TA09A Package Page; ComponentLink3URL: http://www.national.com/packaging/folders/ta09a.html
footprint TA09A (TO, Thru-Hole, Vertical, Heatsink Mounted; 9 Bent Staggered Leads; Body 10.2x8.7x4.6mm, Pitch 0.97 mm)
pins: 1 VINA (in), 2 ~{SD} (in), 3 VOUTA (out), 4 GND (power), 5 GND(TAB) (power), 6 VDD (power), 7 VOUTB (out), 8 BYPASS, 9 VINB (in)

## LM4950TA/NOPB
designator U?
7.5W Mono-BTL or 3.1W Stereo Audio Power Amplifier, 9-pin TO-220, Pb-Free; PartNumber: LM4950TA/NOPB; Manufacturer: National Semiconductor; PackageTopMarking: NSUZXYTTE#*L4950TA; PowerWise: N; CompType: Audio IC; Published: 1-Mar-2010; DatasheetVersion: Aug-2004; PackageVersion: revC, Jul-1999; PackageReference: TA09A; Publisher: Altium Limited; PackageDescription: TO-220, Molded, 9 Lead, Staggered; Supplier 1: Digi-Key; Supplier Part Number 1: LM4950TA-ND; RoHS: Y; PinCount: 9; ComponentLink1Description: LM4950 Datasheet; ComponentLink1URL: http://www.national.com/ds/LM/LM4950.pdf; ComponentLink2Description: LM4950 Web Page; ComponentLink2URL: http://www.national.com/pf/LM/LM4950.html; ComponentLink3Description: TA09A Package Page; ComponentLink3URL: http://www.national.com/packaging/folders/ta09a.html
footprint TA09A (TO, Thru-Hole, Vertical, Heatsink Mounted; 9 Bent Staggered Leads; Body 10.2x8.7x4.6mm, Pitch 0.97 mm)
pins: 1 VINA (in), 2 ~{SD} (in), 3 VOUTA (out), 4 GND (power), 5 GND(TAB) (power), 6 VDD (power), 7 VOUTB (out), 8 BYPASS, 9 VINB (in)

## LM4950TS
designator U?
7.5W Mono-BTL or 3.1W Stereo Audio Power Amplifier, 9-pin TO-263; PartNumber: LM4950TS; Manufacturer: National Semiconductor; PackageTopMarking: NSUZXYTTE#*L4950TS; PowerWise: N; CompType: Audio IC; Published: 4-Dec-2008; DatasheetVersion: Aug-2004; PackageVersion: revB, Dec-2004; PackageReference: TS9A; Publisher: Altium Limited; PackageDescription: TO-263, Molded, 9 Lead, Surface Mount; Supplier 1: Farnell; Supplier Part Number 1: 8181225; RoHS: N; PinCount: 9; ComponentLink1Description: LM4950 Datasheet; ComponentLink1URL: http://www.national.com/ds/LM/LM4950.pdf; ComponentLink2Description: LM4950 Web Page; ComponentLink2URL: http://www.national.com/pf/LM/LM4950.html; ComponentLink3Description: TS9A Package Page; ComponentLink3URL: http://www.national.com/packaging/folders/ts9a.html
footprint TS9A_N (D2-PAK, 10-Leads, Body 8.7x10.2mm, Pitch 0.97mm, Lead Span 14.1mm, IPC Medium Density)
footprint TS9A_L (D2-PAK, 10-Leads, Body 8.7x10.2mm, Pitch 0.97mm, Lead Span 14.1mm, IPC High Density)
footprint TS9A_M (D2-PAK, 10-Leads, Body 8.7x10.2mm, Pitch 0.97mm, Lead Span 14.1mm, IPC Low Density)
pins: 1 VINA (in), 2 ~{SD} (in), 3 VOUTA (out), 4 GND (power), 5 GND(TAB) (power), 6 VDD (power), 7 VOUTB (out), 8 BYPASS, 9 VINB (in)

## LM4950TS/NOPB
designator U?
7.5W Mono-BTL or 3.1W Stereo Audio Power Amplifier, 9-pin TO-263, Pb-Free; PartNumber: LM4950TS/NOPB; Manufacturer: National Semiconductor; PackageTopMarking: NSUZXYTTE#*L4950TS; PowerWise: N; CompType: Audio IC; Published: 1-Mar-2010; DatasheetVersion: Aug-2004; PackageVersion: revB, Dec-2004; PackageReference: TS9A; Publisher: Altium Limited; PackageDescription: TO-263, Molded, 9 Lead, Surface Mount; Supplier 1: Digi-Key; Supplier Part Number 1: LM4950TS-ND; Supplier 2: Farnell; Supplier Part Number 2: 1694024; RoHS: Y; PinCount: 9; ComponentLink1Description: LM4950 Datasheet; ComponentLink1URL: http://www.national.com/ds/LM/LM4950.pdf; ComponentLink2Description: LM4950 Web Page; ComponentLink2URL: http://www.national.com/pf/LM/LM4950.html; ComponentLink3Description: TS9A Package Page; ComponentLink3URL: http://www.national.com/packaging/folders/ts9a.html
footprint TS9A_N (D2-PAK, 10-Leads, Body 8.7x10.2mm, Pitch 0.97mm, Lead Span 14.1mm, IPC Medium Density)
footprint TS9A_L (D2-PAK, 10-Leads, Body 8.7x10.2mm, Pitch 0.97mm, Lead Span 14.1mm, IPC High Density)
footprint TS9A_M (D2-PAK, 10-Leads, Body 8.7x10.2mm, Pitch 0.97mm, Lead Span 14.1mm, IPC Low Density)
pins: 1 VINA (in), 2 ~{SD} (in), 3 VOUTA (out), 4 GND (power), 5 GND(TAB) (power), 6 VDD (power), 7 VOUTB (out), 8 BYPASS, 9 VINB (in)

## LM4950TSX
designator U?
7.5W Mono-BTL or 3.1W Stereo Audio Power Amplifier, 9-pin TO-263; PartNumber: LM4950TSX; Manufacturer: National Semiconductor; PackageTopMarking: NSUZXYTTE#*L4950TS; PowerWise: N; CompType: Audio IC; Published: 1-Mar-2010; DatasheetVersion: Aug-2004; PackageVersion: revB, Dec-2004; PackageReference: TS9A; Publisher: Altium Limited; PackageDescription: TO-263, Molded, 9 Lead, Surface Mount; RoHS: N; PinCount: 9; ComponentLink1Description: LM4950 Datasheet; ComponentLink1URL: http://www.national.com/ds/LM/LM4950.pdf; ComponentLink2Description: LM4950 Web Page; ComponentLink2URL: http://www.national.com/pf/LM/LM4950.html; ComponentLink3Description: TS9A Package Page; ComponentLink3URL: http://www.national.com/packaging/folders/ts9a.html
footprint TS9A_N (D2-PAK, 10-Leads, Body 8.7x10.2mm, Pitch 0.97mm, Lead Span 14.1mm, IPC Medium Density)
footprint TS9A_L (D2-PAK, 10-Leads, Body 8.7x10.2mm, Pitch 0.97mm, Lead Span 14.1mm, IPC High Density)
footprint TS9A_M (D2-PAK, 10-Leads, Body 8.7x10.2mm, Pitch 0.97mm, Lead Span 14.1mm, IPC Low Density)
pins: 1 VINA (in), 2 ~{SD} (in), 3 VOUTA (out), 4 GND (power), 5 GND(TAB) (power), 6 VDD (power), 7 VOUTB (out), 8 BYPASS, 9 VINB (in)

## LM4951ASD
designator U?
Wide Voltage Range 1.8 Watt Audio Power Amplifier With Short Circuit Protection, 11-pin LLP; PartNumber: LM4951ASD; Manufacturer: National Semiconductor; PackageTopMarking: NS*UZXYTT*4951ASD; PowerWise: N; CompType: Audio IC; Published: 4-Dec-2008; DatasheetVersion: Sep-2008; PackageVersion: revA, May-2003; PackageReference: SDC10A; Publisher: Altium Limited; PackageDescription: LLP, Plastic, Dual, 4 x 4 x 0.8mm Body, 10 Lead, 0.8mm Pitch, No Pullback; RoHS: Y; PinCount: 10; ComponentLink1Description: LM4951A Datasheet; ComponentLink1URL: http://www.national.com/ds/LM/LM4951A.pdf; ComponentLink2Description: LM4951A Web Page; ComponentLink2URL: http://www.national.com/pf/LM/LM4951A.html; ComponentLink3Description: SDC10A Package Page; ComponentLink3URL: http://www.national.com/packaging/folders/sdc10a.html
footprint SDC10A (SON, 10-Leads, Body 4x4 mm, Pitch 0.8mm, NSC Recommended)
pins: 1 BYPASS (out), 2 ~{SD} (in), 3 CCHG (out), 4 NC, 5 VIN (in), 6 VO- (out), 7 GND (power), 8 NC, 9 VDD (power), 10 VO+ (out), 11 DAP

## LM4951ASD/NOPB
designator U?
Wide Voltage Range 1.8 Watt Audio Power Amplifier With Short Circuit Protection, 10-pin LLP, Pb-Free; PartNumber: LM4951ASD/NOPB; Manufacturer: National Semiconductor; PackageTopMarking: NS*UZXYTT*4951ASD; PowerWise: N; CompType: Audio IC; Published: 1-Mar-2010; DatasheetVersion: Sep-2008; PackageVersion: revA, May-2003; PackageReference: SDC10A; Publisher: Altium Limited; PackageDescription: LLP, Plastic, Dual, 4 x 4 x 0.8mm Body, 10 Lead, 0.8mm Pitch, No Pullback; Supplier 1: Digi-Key; Supplier Part Number 1: LM4951ASDTR-ND; Supplier 2: Digi-Key; Supplier Part Number 2: LM4951ASDCT-ND; Supplier 3: Digi-Key; Supplier Part Number 3: LM4951ASDDKR-ND; RoHS: Y; PinCount: 10; ComponentLink1Description: LM4951A Datasheet; ComponentLink1URL: http://www.national.com/ds/LM/LM4951A.pdf; ComponentLink2Description: LM4951A Web Page; ComponentLink2URL: http://www.national.com/pf/LM/LM4951A.html; ComponentLink3Description: SDC10A Package Page; ComponentLink3URL: http://www.national.com/packaging/folders/sdc10a.html
footprint SDC10A (SON, 10-Leads, Body 4x4 mm, Pitch 0.8mm, NSC Recommended)
pins: 1 BYPASS (out), 2 ~{SD} (in), 3 CCHG (out), 4 NC, 5 VIN (in), 6 VO- (out), 7 GND (power), 8 NC, 9 VDD (power), 10 VO+ (out), 11 DAP

## LM4951ASDX/NOPB
designator U?
Wide Voltage Range 1.8 Watt Audio Power Amplifier With Short Circuit Protection, 10-pin LLP, Pb-Free; PartNumber: LM4951ASDX/NOPB; Manufacturer: National Semiconductor; PackageTopMarking: NS*UZXYTT*4951ASD; PowerWise: N; CompType: Audio IC; Published: 1-Mar-2010; DatasheetVersion: Sep-2008; PackageVersion: revA, May-2003; PackageReference: SDC10A; Publisher: Altium Limited; PackageDescription: LLP, Plastic, Dual, 4 x 4 x 0.8mm Body, 10 Lead, 0.8mm Pitch, No Pullback; Supplier 1: Digi-Key; Supplier Part Number 1: LM4951ASDX-ND; RoHS: Y; PinCount: 10; ComponentLink1Description: LM4951A Datasheet; ComponentLink1URL: http://www.national.com/ds/LM/LM4951A.pdf; ComponentLink2Description: LM4951A Web Page; ComponentLink2URL: http://www.national.com/pf/LM/LM4951A.html; ComponentLink3Description: SDC10A Package Page; ComponentLink3URL: http://www.national.com/packaging/folders/sdc10a.html
footprint SDC10A (SON, 10-Leads, Body 4x4 mm, Pitch 0.8mm, NSC Recommended)
pins: 1 BYPASS (out), 2 ~{SD} (in), 3 CCHG (out), 4 NC, 5 VIN (in), 6 VO- (out), 7 GND (power), 8 NC, 9 VDD (power), 10 VO+ (out), 11 DAP

## LM4951SD
designator U?
Wide Voltage Range 1.8 Watt Audio Power Amplifier, 11-pin LLP; PartNumber: LM4951SD; Manufacturer: National Semiconductor; PackageTopMarking: NS*UZXYTT*L4951SD; PowerWise: N; CompType: Audio IC; Published: 4-Dec-2008; DatasheetVersion: Mar-2009; PackageVersion: revA, May-2003; PackageReference: SDC10A; Publisher: Altium Limited; PackageDescription: LLP, Plastic, Dual, 4 x 4 x 0.8mm Body, 10 Lead, 0.8mm Pitch, No Pullback; Supplier 1: Farnell; Supplier Part Number 1: 1312786; RoHS: N; PinCount: 10; ComponentLink1Description: LM4951 Datasheet; ComponentLink1URL: http://www.national.com/ds/LM/LM4951.pdf; ComponentLink2Description: LM4951 Web Page; ComponentLink2URL: http://www.national.com/pf/LM/LM4951.html; ComponentLink3Description: SDC10A Package Page; ComponentLink3URL: http://www.national.com/packaging/folders/sdc10a.html
footprint SDC10A (SON, 10-Leads, Body 4x4 mm, Pitch 0.8mm, NSC Recommended)
pins: 1 BYPASS, 2 ~{SD} (in), 3 CCHG, 4 NC, 5 VIN (in), 6 VO- (out), 7 GND (power), 8 NC, 9 VDD (power), 10 VO+ (out), 11 DAP (power)

## LM4951SD/NOPB
designator U?
Wide Voltage Range 1.8 Watt Audio Power Amplifier, 10-pin LLP, Pb-Free; PartNumber: LM4951SD/NOPB; Manufacturer: National Semiconductor; PackageTopMarking: NS*UZXYTT*L4951SD; PowerWise: N; CompType: Audio IC; Published: 1-Mar-2010; DatasheetVersion: Mar-2009; PackageVersion: revA, May-2003; PackageReference: SDC10A; Publisher: Altium Limited; PackageDescription: LLP, Plastic, Dual, 4 x 4 x 0.8mm Body, 10 Lead, 0.8mm Pitch, No Pullback; Supplier 1: Digi-Key; Supplier Part Number 1: LM4951SDTR-ND; Supplier 2: Digi-Key; Supplier Part Number 2: LM4951SDCT-ND; Supplier 3: Digi-Key; Supplier Part Number 3: LM4951SDDKR-ND; RoHS: Y; PinCount: 10; ComponentLink1Description: LM4951 Datasheet; ComponentLink1URL: http://www.national.com/ds/LM/LM4951.pdf; ComponentLink2Description: LM4951 Web Page; ComponentLink2URL: http://www.national.com/pf/LM/LM4951.html; ComponentLink3Description: SDC10A Package Page; ComponentLink3URL: http://www.national.com/packaging/folders/sdc10a.html
footprint SDC10A (SON, 10-Leads, Body 4x4 mm, Pitch 0.8mm, NSC Recommended)
pins: 1 BYPASS, 2 ~{SD} (in), 3 CCHG, 4 NC, 5 VIN (in), 6 VO- (out), 7 GND (power), 8 NC, 9 VDD (power), 10 VO+ (out), 11 DAP (power)

## LM4951SDX
designator U?
Wide Voltage Range 1.8 Watt Audio Power Amplifier, 10-pin LLP; PartNumber: LM4951SDX; Manufacturer: National Semiconductor; PackageTopMarking: NS*UZXYTT*L4951SD; PowerWise: N; CompType: Audio IC; Published: 1-Mar-2010; DatasheetVersion: Mar-2009; PackageVersion: revA, May-2003; PackageReference: SDC10A; Publisher: Altium Limited; PackageDescription: LLP, Plastic, Dual, 4 x 4 x 0.8mm Body, 10 Lead, 0.8mm Pitch, No Pullback; RoHS: N; PinCount: 10; ComponentLink1Description: LM4951 Datasheet; ComponentLink1URL: http://www.national.com/ds/LM/LM4951.pdf; ComponentLink2Description: LM4951 Web Page; ComponentLink2URL: http://www.national.com/pf/LM/LM4951.html; ComponentLink3Description: SDC10A Package Page; ComponentLink3URL: http://www.national.com/packaging/folders/sdc10a.html
footprint SDC10A (SON, 10-Leads, Body 4x4 mm, Pitch 0.8mm, NSC Recommended)
pins: 1 BYPASS, 2 ~{SD} (in), 3 CCHG, 4 NC, 5 VIN (in), 6 VO- (out), 7 GND (power), 8 NC, 9 VDD (power), 10 VO+ (out), 11 DAP (power)

## LM4951TL
designator U?
Wide Voltage Range 1.8 Watt Audio Power Amplifier, 9-pin Micro SMD; PartNumber: LM4951TL; Manufacturer: National Semiconductor; PackageTopMarking: XVG*I F8; PowerWise: N; CompType: Audio IC; Published: 4-Dec-2008; DatasheetVersion: Mar-2009; PackageVersion: revC, Jan-2004; PackageReference: TLA09ZZA; Publisher: Altium Limited; PackageDescription: Thin Micro SMD, 9 Bump (Large), 0.5mm Pitch; RoHS: Y; PinCount: 9; Code_JEDEC: MO-211-DD; ComponentLink1Description: LM4951 Datasheet; ComponentLink1URL: http://www.national.com/ds/LM/LM4951.pdf; ComponentLink2Description: LM4951 Web Page; ComponentLink2URL: http://www.national.com/pf/LM/LM4951.html; ComponentLink3Description: TLA09ZZA Package Page; ComponentLink3URL: http://www.national.com/packaging/folders/tla09zza.html
footprint TLA09ZZA (Micro SMD, 9-Leads, Body 1.47x1.47mm, Pitch 0.5mm, NSC Recommended)
pins: A1 VIN (in), A2 VO- (out), A3 CCHG, B1 GND (power), B2 GND (power), B3 VDD (power), C1 BYPASS, C2 VO+ (out), C3 ~{SD} (in)

## LM4951TL/NOPB
designator U?
Wide Voltage Range 1.8 Watt Audio Power Amplifier, 9-pin Micro SMD, Pb-Free; PartNumber: LM4951TL/NOPB; Manufacturer: National Semiconductor; PackageTopMarking: XVG*I F8; PowerWise: N; CompType: Audio IC; Published: 1-Mar-2010; DatasheetVersion: Mar-2009; PackageVersion: revC, Jan-2004; PackageReference: TLA09ZZA; Publisher: Altium Limited; PackageDescription: Thin Micro SMD, 9 Bump (Large), 0.5mm Pitch; Supplier 1: Digi-Key; Supplier Part Number 1: LM4951TL/NOPBTR-ND; Supplier 2: Digi-Key; Supplier Part Number 2: LM4951TL/NOPBCT-ND; Supplier 3: Digi-Key; Supplier Part Number 3: LM4951TL/NOPBDKR-ND; RoHS: Y; PinCount: 9; Code_JEDEC: MO-211-DD; ComponentLink1Description: LM4951 Datasheet; ComponentLink1URL: http://www.national.com/ds/LM/LM4951.pdf; ComponentLink2Description: LM4951 Web Page; ComponentLink2URL: http://www.national.com/pf/LM/LM4951.html; ComponentLink3Description: TLA09ZZA Package Page; ComponentLink3URL: http://www.national.com/packaging/folders/tla09zza.html
footprint TLA09ZZA (Micro SMD, 9-Leads, Body 1.47x1.47mm, Pitch 0.5mm, NSC Recommended)
pins: A1 VIN (in), A2 VO- (out), A3 CCHG, B1 GND (power), B2 GND (power), B3 VDD (power), C1 BYPASS, C2 VO+ (out), C3 ~{SD} (in)

## LM4951TLX/NOPB
designator U?
Wide Voltage Range 1.8 Watt Audio Power Amplifier, 9-pin Micro SMD, Pb-Free; PartNumber: LM4951TLX/NOPB; Manufacturer: National Semiconductor; PackageTopMarking: XVG*I F8; PowerWise: N; CompType: Audio IC; Published: 1-Mar-2010; DatasheetVersion: Mar-2009; PackageVersion: revC, Jan-2004; PackageReference: TLA09ZZA; Publisher: Altium Limited; PackageDescription: Thin Micro SMD, 9 Bump (Large), 0.5mm Pitch; Supplier 1: Digi-Key; Supplier Part Number 1: LM4951TLX-ND; RoHS: Y; PinCount: 9; Code_JEDEC: MO-211-DD; ComponentLink1Description: LM4951 Datasheet; ComponentLink1URL: http://www.national.com/ds/LM/LM4951.pdf; ComponentLink2Description: LM4951 Web Page; ComponentLink2URL: http://www.national.com/pf/LM/LM4951.html; ComponentLink3Description: TLA09ZZA Package Page; ComponentLink3URL: http://www.national.com/packaging/folders/tla09zza.html
footprint TLA09ZZA (Micro SMD, 9-Leads, Body 1.47x1.47mm, Pitch 0.5mm, NSC Recommended)
pins: A1 VIN (in), A2 VO- (out), A3 CCHG, B1 GND (power), B2 GND (power), B3 VDD (power), C1 BYPASS, C2 VO+ (out), C3 ~{SD} (in)

## LM4952TS
designator U?
3.1W Stereo-SE Audio Power Amplifier with DC Volume Control, 9-pin TO-263; PartNumber: LM4952TS; Manufacturer: National Semiconductor; PackageTopMarking: NSUZXYTTE#*LM4952TS; PowerWise: N; CompType: Audio IC; Published: 4-Dec-2008; DatasheetVersion: Aug-2004; PackageVersion: revB, Dec-2004; PackageReference: TS9A; Publisher: Altium Limited; PackageDescription: TO-263, Molded, 9 Lead, Surface Mount; Supplier 1: Farnell; Supplier Part Number 1: 1008028; RoHS: N; PinCount: 9; ComponentLink1Description: LM4952 Datasheet; ComponentLink1URL: http://www.national.com/ds/LM/LM4952.pdf; ComponentLink2Description: LM4952 Web Page; ComponentLink2URL: http://www.national.com/pf/LM/LM4952.html; ComponentLink3Description: TS9A Package Page; ComponentLink3URL: http://www.national.com/packaging/folders/ts9a.html
footprint TS9A_N (D2-PAK, 10-Leads, Body 8.7x10.2mm, Pitch 0.97mm, Lead Span 14.1mm, IPC Medium Density)
footprint TS9A_L (D2-PAK, 10-Leads, Body 8.7x10.2mm, Pitch 0.97mm, Lead Span 14.1mm, IPC High Density)
footprint TS9A_M (D2-PAK, 10-Leads, Body 8.7x10.2mm, Pitch 0.97mm, Lead Span 14.1mm, IPC Low Density)
pins: 1 DC VOL (in), 2 -VINA (in), 3 ~{SD} (in), 4 VOUTA (out), 5 GND (power), 6 VDD (power), 7 VOUTB (out), 8 -VINB (in), 9 BYPASS, 10 DAP (power)

## LM4952TS/NOPB
designator U?
3.1W Stereo-SE Audio Power Amplifier with DC Volume Control, 9-pin TO-263, Pb-Free; PartNumber: LM4952TS/NOPB; Manufacturer: National Semiconductor; PackageTopMarking: NSUZXYTTE#*LM4952TS; PowerWise: N; CompType: Audio IC; Published: 1-Mar-2010; DatasheetVersion: Aug-2004; PackageVersion: revB, Dec-2004; PackageReference: TS9A; Publisher: Altium Limited; PackageDescription: TO-263, Molded, 9 Lead, Surface Mount; Supplier 1: Digi-Key; Supplier Part Number 1: LM4952TS-ND; RoHS: Y; PinCount: 9; ComponentLink1Description: LM4952 Datasheet; ComponentLink1URL: http://www.national.com/ds/LM/LM4952.pdf; ComponentLink2Description: LM4952 Web Page; ComponentLink2URL: http://www.national.com/pf/LM/LM4952.html; ComponentLink3Description: TS9A Package Page; ComponentLink3URL: http://www.national.com/packaging/folders/ts9a.html
footprint TS9A_N (D2-PAK, 10-Leads, Body 8.7x10.2mm, Pitch 0.97mm, Lead Span 14.1mm, IPC Medium Density)
footprint TS9A_L (D2-PAK, 10-Leads, Body 8.7x10.2mm, Pitch 0.97mm, Lead Span 14.1mm, IPC High Density)
footprint TS9A_M (D2-PAK, 10-Leads, Body 8.7x10.2mm, Pitch 0.97mm, Lead Span 14.1mm, IPC Low Density)
pins: 1 DC VOL (in), 2 -VINA (in), 3 ~{SD} (in), 4 VOUTA (out), 5 GND (power), 6 VDD (power), 7 VOUTB (out), 8 -VINB (in), 9 BYPASS, 10 DAP (power)